# Altium footprint library SMT inductor.PcbLib: 1 footprints
Each footprint in its own frame and in the unit in brackets; x right, y up, seen from the top. Pads: shape width x height; smd on the part's side, far side on the other; paste and mask are expansions set on the pad; w line width, h text height; cw(c..) or ccw(c..) is an arc to the next point about the centre after c.
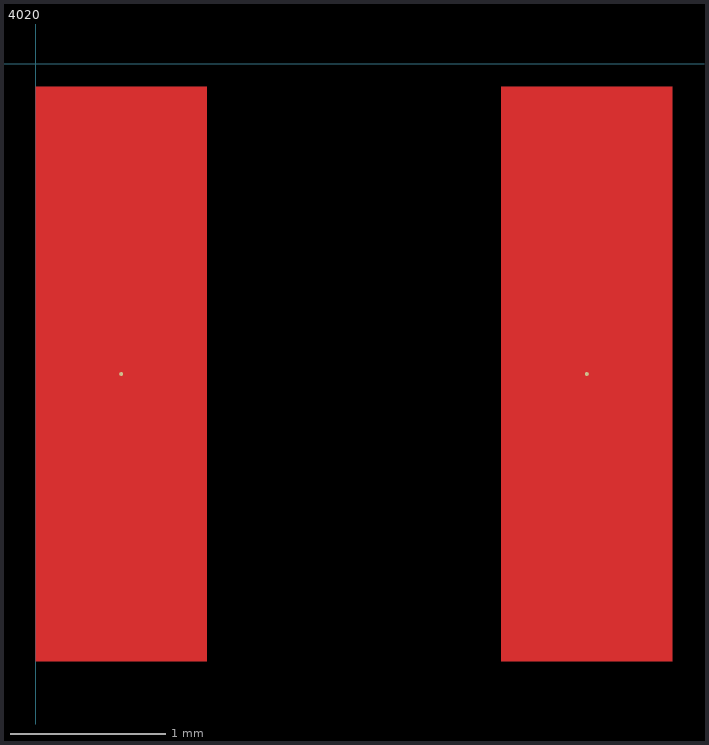
[diagram p0: the footprint, top view; thin cyan lines are the x and y axes]

## 4020 [mm] "4020 SMT inductor"
pads (2):
  round 0.025 smd: 1(0.55,-2) 2(3.55,-2)
Top Layer:
  region: 3,-3.85 4.1,-3.85 4.1,-0.15 3,-0.15
  region: 0,-3.85 0,-0.15 1.1,-0.15 1.1,-3.85